# EAGLE library part MCP2561-E/SN (library Microchip_By_element14_Batch_1)
High-Speed CAN Transceiver
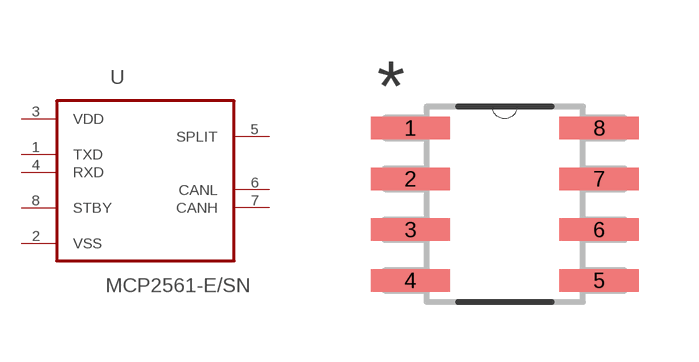
[diagram p2: symbol with the pads of SOIC127P600X175-8N; footprint SOIC127P600X175-8N]

Designator prefix -

## MCP2561-E/SN (MPN: MCP2551-I/SN; PACKAGE: SOIC-8; SUPPLIER: Microchip)  [SOIC127P600X175-8N]
1  TXD  in
2  VSS  pas
3  VDD  pwr
4  RXD  out
5  SPLIT  out
6  CANL
7  CANH
8  STBY  in

## Footprint SOIC127P600X175-8N (pad centres in mm)
smd 1.981 x 0.559: 1 -2.362,1.905; 2 -2.362,0.635; 3 -2.362,-0.635; 4 -2.362,-1.905; 5 2.362,-1.905; 6 2.362,-0.635; 7 2.362,0.635; 8 2.362,1.905